# EAGLE library part 74HC595 (library TimeExpander)
8-Bit Shift Register
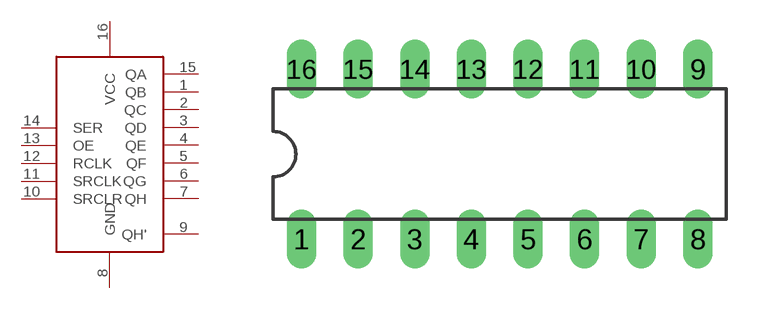
[diagram p5: symbol with the pads of DIL16; footprint DIL16]

Designator prefix -

## 74HC595 (VALUE: 74HC595)  [DIL16]
1  QB
2  QC
3  QD
4  QE
5  QF
6  QG
7  QH
8  GND
9  QH'
10  SRCLR
11  SRCLK
12  RCLK
13  OE
14  SER
15  QA
16  VCC

## Footprint DIL16 (pad centres in mm)
Dual In Line Package
drill 0.813 long: 1 -8.89,-3.81; 2 -6.35,-3.81; 3 -3.81,-3.81; 4 -1.27,-3.81; 5 1.27,-3.81; 6 3.81,-3.81; 7 6.35,-3.81; 8 8.89,-3.81; 9 8.89,3.81; 10 6.35,3.81; 11 3.81,3.81; 12 1.27,3.81; 13 -1.27,3.81; 14 -3.81,3.81; 15 -6.35,3.81; 16 -8.89,3.81